# EAGLE library part ADXRS150_GYRO (library MlabPaja)
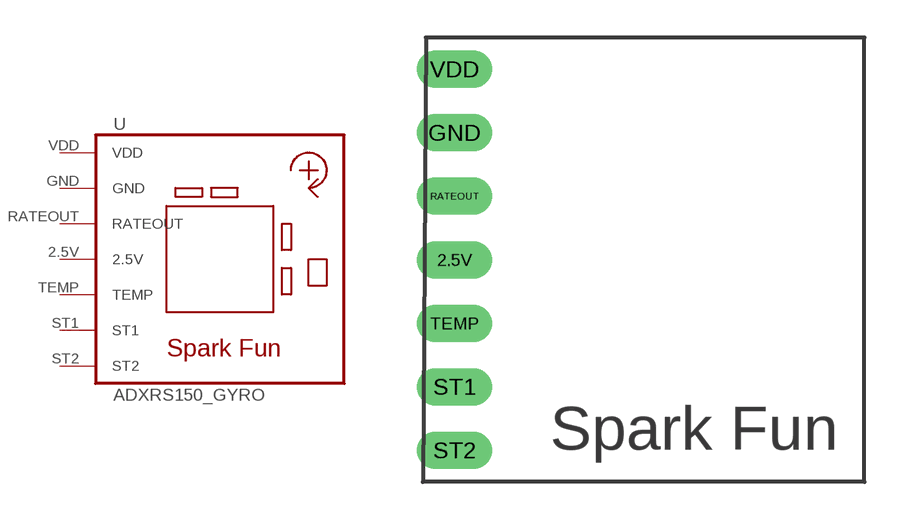
[diagram p9: symbol with the pads of ADXRS150_GYRO; footprint ADXRS150_GYRO]

Designator prefix -

## ADXRS150_GYRO  [ADXRS150_GYRO]
2.5V  2.5V  pas
GND  GND  pwr
RATEOUT  RATEOUT  out
ST1  ST1  pas
ST2  ST2  pas
TEMP  TEMP  pas
VDD  VDD  pwr

## Footprint ADXRS150_GYRO (pad centres in mm)
drill 1 long: 2.5V -3.81,-1.27; GND -3.81,3.81; RATEOUT -3.81,1.27; ST1 -3.81,-6.35; ST2 -3.81,-8.89; TEMP -3.81,-3.81; VDD -3.81,6.35